# EAGLE library part X__MOLEX_LIEGEND_4 (library ..SMD)
Molex liegend
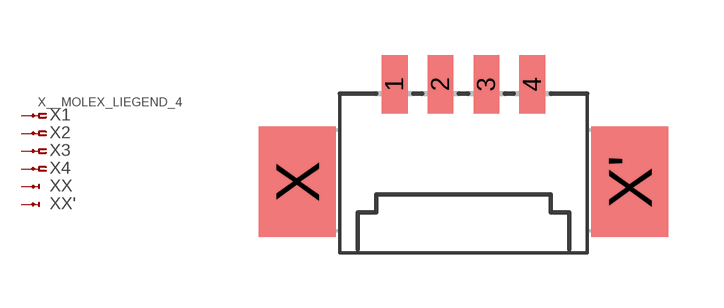
[diagram p369: symbol with the pads of MOLEX_LIEGEND_4; footprint MOLEX_LIEGEND_4]

Designator prefix X; gates 1=MOLEXPIN-NV 2=MOLEXPIN-N 3=MOLEXPIN-N 4=MOLEXPIN-N X=MOLEXPIN-X X'=MOLEXPIN-X

## X__MOLEX_LIEGEND_4  [MOLEX_LIEGEND_4]
1  1:1  pas
2  2:1  pas
3  3:1  pas
4  4:1  pas
X  X:1  pas
X'  X':1  pas

## Footprint MOLEX_LIEGEND_4 (pad centres in mm)
smd 0.7 x 1.6: 1 0,0; 2 1.25,0; 3 2.5,0; 4 3.75,0
smd 2.1 x 3: X -2.656,-2.656; X' 6.406,-2.656